# Altium schematic symbol library CryptLib.SchLib: 59 symbols (part 1 of 2)
Pins are listed as number, name and electrical type; pins without a type are passive.

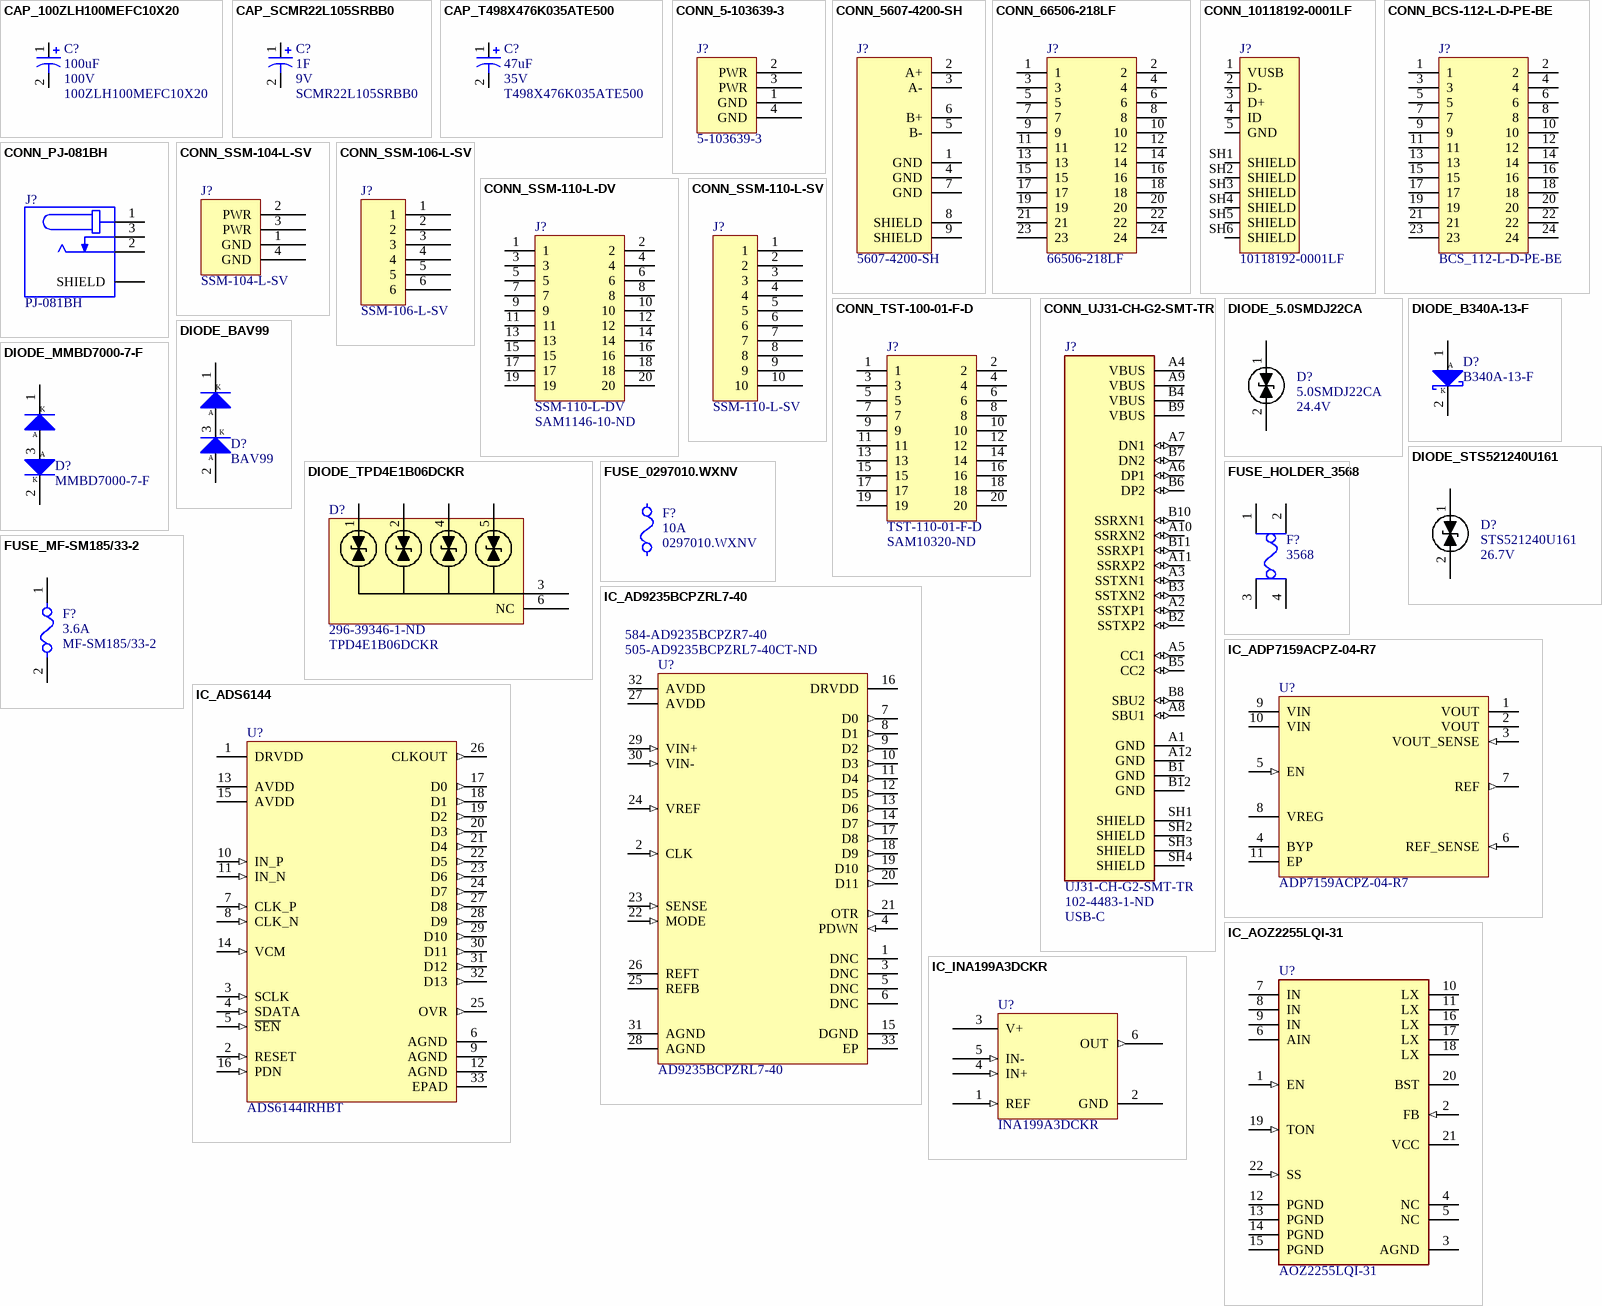
[diagram p0: symbols CAP_100ZLH100MEFC10X20 to IC_INA199A3DCKR]

## CAP_100ZLH100MEFC10X20
designator C?, comment 100uF  Manufacturer Part Number: 100ZLH100MEFC10X20  Rated Voltage: 100V
CAP 100uF 20% 100V T/H; Mfr: Rubycon; Impedance: 120mR; Tolerance: 20%; Operating Temperature: -40C - 105C; ComponentLink1Description: Digikey; ComponentLink1URL: https://www.digikey.ca/en/products/detail/rubycon/100ZLH100MEFC10X20/3563824; ComponentLink2Description: Mouser; ComponentLink2URL: https://www.mouser.ca/ProductDetail/Rubycon/100ZLH100MEFC10X20; Digikey Part Number: 1189-1887-ND; Created By: Pascal-Emmanuel Lachance; ComponentLink3Description: Datasheet; ComponentLink3URL: https://www.rubycon.co.jp/wp-content/uploads/catalog-aluminum/ZLH.pdf; ComponentLink4Description: Octoparts; ComponentLink4URL: https://octopart.com/100zlh100mefc10x20-rubycon-19941711; Height: 22mm; Supplier 1: Digi-Key; Supplier 2: Mouser; Supplier Part Number 1: 1189-1887-ND; Supplier Part Number 2: 232-100ZLH100MEFC10X
footprint 100ZLH100MEFC10X20 (Can Electrolytic Capacitor)
pins: 1, 2
1 alternate drawing of the same symbol

## CAP_SCMR22L105SRBB0
designator C?, comment 1F  Manufacturer Part Number: SCMR22L105SRBB0  Rated Voltage: 9V
CAP 1F -10% +30% 9V T/H; Mfr: AVX Corporation; Tolerance: -10% +30%; Operating Temperature: -40C - 65C; ComponentLink1Description: Digikey; ComponentLink1URL: https://www.digikey.ca/en/products/detail/avx-corporation/SCMR22L105SRBB0/7595432; ComponentLink2Description: Mouser; ComponentLink2URL: https://www.mouser.ca/ProductDetail/AVX/SCMR22L105SRBB0; Digikey Part Number: 478-11316-ND; Created By: Pascal-Emmanuel Lachance; ComponentLink3Description: Datasheet; ComponentLink3URL: https://datasheets.kyocera-avx.com/AVX-SCM.pdf; ComponentLink4Description: Octoparts; ComponentLink4URL: https://octopart.com/scmr22l105srbb0-avx-95719752; Supplier 1: Digi-Key; Supplier 2: Mouser; Supplier 3: Newark; Supplier Part Number 1: 478-11316-ND; Supplier Part Number 2: 581-SCMR22L105SRBB0; Supplier Part Number 3: 21AJ9655
footprint SCMR22L105SRBB0
pins: 1, 2
1 alternate drawing of the same symbol

## CAP_T498X476K035ATE500
designator C?, comment 47uF  Part #: T498X476K035ATE500  Rated Voltage: 35V
47 µF Molded Tantalum Capacitors 35 V 2917 (7343 Metric) 500mOhm; Mfr: KEMET; Tolerance: 10%; Operating Temperature: -55C - 150C; Supplier 1: Digi-Key; Supplier Part Number 1: 399-11397-1-ND; Created By: Pascal-Emmanuel Lachance; ComponentLink1Description: Octoparts; ComponentLink1URL: https://octopart.com/t498x476k035ate500-kemet-34111820; ComponentLink2Description: Digikey; ComponentLink2URL: https://www.digikey.ca/en/products/detail/T498X476K035ATE500/399-11397-2-ND/4692856; ComponentLink3Description: Mouser; ComponentLink3URL: https://www.mouser.ca/ProductDetail/KEMET/T498X476K035ATE500; ComponentLink4Description: Datasheet; ComponentLink4URL: https://content.kemet.com/datasheets/KEM_T2053_T498_AUTO.pdf
footprint CAP_2917_P
pins: 1, 2
1 alternate drawing of the same symbol

## CONN_5-103639-3
designator J?, comment 5-103639-3
CONN HEADER VERT 4POS 2.54MM; Mfr: TE Connectivity; Number of positions: 4; Pitch: 100mil; Contact Length: 230mil; Current: 5.2A / contact; Operating Temperature: -65C - 105C; Created By: Pascal-Emmanuel Lachance; ComponentLink1Description: Octoparts; ComponentLink1URL: https://octopart.com/search?q=5-103639-3; ComponentLink2Description: Digikey; ComponentLink2URL: https://www.digikey.ca/en/products/detail/5-103639-3/A33927-ND/1122490; ComponentLink3Description: Mouser; ComponentLink3URL: https://www.mouser.ca/ProductDetail/TE-Connectivity/5-103639-3; ComponentLink4Description: Datasheet; ComponentLink4URL: https://www.te.com/commerce/DocumentDelivery/DDEController?Action=srchrtrv&DocNm=103639&DocType=Customer+Drawing&DocLang=English
footprint 5-103639-3
pins: 1 GND (power), 2 PWR (power), 3 PWR (power), 4 GND (power)

## CONN_5607-4200-SH
designator J?, comment 5607-4200-SH
7 Position SATA Plug Connector Solder Surface Mount, Right Angle; Mfr: 3M; Supplier 1: Digi-Key; Supplier Part Number 1: 3M5561-ND; Connector Type: SATA; Mounting Type: Right Angle; ComponentLink1Description: Octoparts; ComponentLink1URL: https://octopart.com/5607-4200-sh-3m-656899; Created By: Pascal-Emmanuel Lachance; ComponentLink2Description: Digikey; ComponentLink2URL: https://www.digikey.ca/en/products/detail/3m/5607-4200-SH/1207102; ComponentLink3Description: Mouser; ComponentLink3URL: https://www.mouser.ca/ProductDetail/3M-Electronic-Solutions-Division/5607-4200-SH; ComponentLink4Description: Newark; ComponentLink4URL: https://canada.newark.com/3m/5607-4200-sh/sata-connector-plug-7-position/dp/18M6678; ComponentLink5Description: Datasheet; ComponentLink5URL: https://multimedia.3m.com/mws/media/412906O/3mtm-serial-adv-tech-attachment-sata-connector-cd2108.pdf
footprint 5607-4200-SH
pins: 1 GND (power), 2 A+, 3 A-, 4 GND (power), 5 B-, 6 B+, 7 GND (power), 8 SHIELD, 9 SHIELD

## CONN_66506-218LF
designator J?, comment 66506-218LF
CONN HEADER VERT 24POS 2.54MM; Mfr: Amphenol ICC; Number of positions: 24; Pitch: 100mil; Contact Length: 230mil; Row Space: 100mil; Supplier 1: Mouser; Supplier Part Number 1: 649-66506-218LF; Created By: *; ComponentLink1Description: Octopart; ComponentLink1URL: https://octopart.com/66506-218lf-amphenol+icc+%2F+fci-40071990; ComponentLink2Description: Digikey; ComponentLink2URL: https://www.digikey.com/en/products/detail/amphenol-icc-fci/66506-218LF/4272804; ComponentLink3Description: Mouser; ComponentLink3URL: https://www.mouser.ca/ProductDetail/Amphenol-FCI/66506-218LF; ComponentLink4Description: Datasheet; ComponentLink4URL: https://cdn.amphenol-icc.com/media/wysiwyg/files/drawing/66506.pdf
footprint 66506-218LF
pins: 1, 2, 3, 4, 5, 6, 7, 8, 9, 10, 11, 12, 13, 14, 15, 16, 17, 18, 19, 20, 21, 22, 23, 24

## CONN_10118192-0001LF
designator J?, comment 10118192-0001LF
USB - micro B USB 2.0 Receptacle Connector 5 Position Surface Mount, Right Angle; mfr: Amphenol ICC; Specification: USB 2.0; Current Rating: 1.8A / Contact; Operating Temperature: -30C - 80C; Supplier 1: Digi-Key; Supplier 2: Newark; Supplier 3: Allied Electronics; Supplier Part Number 3: 70236826; Supplier Part Number 2: 67T2258; Supplier Part Number 1: 609-4613-1-ND; Created By: Pascal-Emmanuel Lachance; ComponentLink1Description: Datasheet; ComponentLink1URL: https://cdn.amphenol-icc.com/media/wysiwyg/files/documentation/datasheet/inputoutput/io_usb_micro.pdf; ComponentLink2Description: Octopart; ComponentLink2URL: https://octopart.com/10118192-0001lf-amphenol+icc+%2F+fci-90333079; ComponentLink3Description: Digikey; ComponentLink3URL: https://www.digikey.ca/en/products/detail/amphenol-icc-fci/10118192-0001LF/2785387; ComponentLink4Description: Mouser; ComponentLink4URL: https://www.mouser.ca/ProductDetail/Amphenol-FCI/10118192-0001LF; ComponentLink5Description: Arrow; ComponentLink5URL: https://www.arrow.com/en/products/10118192-0001lf/amphenol-fci; ComponentLink6Description: Amphenol; ComponentLink6URL: https://www.amphenol-icc.com/micro-usb-101181920001lf.html
footprint 10118192-0001LF
pins: 1 VUSB, 2 D-, 3 D+, 4 ID, 5 GND, SH1 SHIELD, SH2 SHIELD, SH3 SHIELD, SH4 SHIELD, SH5 SHIELD, SH6 SHIELD

## CONN_BCS-112-L-D-PE-BE
designator J?, comment BCS_112-L-D-PE-BE
CONN RCPT 24POS 0.1 GOLD PCB; Mfr: Samtec Inc.; Number of positions: 24; Pitch: 100mil; Current: 4.6A; Row Space: 100mil; Insulation Height: 290mil; Operating Temperature: -55C - 125C
footprint BCS-112-L-D-PE-BE
pins: 1, 2, 3, 4, 5, 6, 7, 8, 9, 10, 11, 12, 13, 14, 15, 16, 17, 18, 19, 20, 21, 22, 23, 24

## CONN_PJ-081BH
designator J?, comment PJ-081BH
2.5 x 5.9 mm, 5.0 A, Horizontal, Through Hole, Shielded, Dc Power Jack Connector; Manufacturer: CUI Devices; Inside contact diameter: 2.5mm; Outside contact diameter: 5.5mm; Current Rating: 5A; Voltage Rating: 24V; Part #: PJ-081BH; ComponentLink1Description: Mouser; ComponentLink1URL: https://www.mouser.ca/ProductDetail/CUI-Devices/PJ-081BH; ComponentLink2Description: Digikey; ComponentLink2URL: https://www.digikey.ca/en/products/detail/cui-devices/PJ-081BH/9830152; Supplier 1: Digi-Key; Supplier Part Number 1: 102-5550-1-ND
footprint PJ-081BH
pins: 1, 2, 3, S1 SHIELD, S2 SHIELD

## CONN_SSM-104-L-SV
designator J?, comment SSM-104-L-SV
CONN RCPT 4POS 0.1 GOLD SMD; Mfr: Samtec Inc.; Number of positions: 4; Pitch: 100mil; Current: 5.2A / contact; Insulation Height: 290mil; Operating Temperature: -55C - 125C
footprint SSM-104-L-SV
pins: 1 GND (power), 2 PWR (power), 3 PWR (power), 4 GND (power)

## CONN_SSM-106-L-SV
designator J?, comment SSM-106-L-SV
CONN RCPT 6POS 0.1 GOLD SMD; Mfr: Samtec Inc.; Number of positions: 6; Pitch: 100mil; Current: 5.2A / contact; Insulation Height: 290mil; Operating Temperature: -55C - 125C
footprint SSM-106-L-SV
pins: 1, 2, 3, 4, 5, 6

## CONN_SSM-110-L-DV
designator J?, comment SSM-110-L-DV  Supplier Part Number 1: SAM1146-10-ND
CONN RCPT 20POS 100MILS; Mfr: Samtech Inc.; Number of positions: 20; Current Rating: 5.2A per contact; Voltage Rating: 405VAC, 572VDC; Number of rows: 2; Pitch: 100mils; Mounting Type: Surface Mount; Insulation Height: 290mils; Operating Temperature: -55C - 125C; Supplier 1: Digi-Key
footprint SSM-110-L-DV
pins: 1, 2, 3, 4, 5, 6, 7, 8, 9, 10, 11, 12, 13, 14, 15, 16, 17, 18, 19, 20

## CONN_SSM-110-L-SV
designator J?, comment SSM-110-L-SV
CONN RCPT 10POS 0.1 GOLD SMD; Mfr: Samtec Inc.; Number of positions: 10; Pitch: 100mil; Current: 5.2A / contact; Insulation Height: 290mil; Operating Temperature: -55C - 125C; Supplier 1: Digi-Key; Supplier Part Number 1: SAM1148-10-ND; Created By: Pascal-Emmanuel Lachance
footprint SSM-110-L-SV
pins: 1, 2, 3, 4, 5, 6, 7, 8, 9, 10

## CONN_TST-100-01-F-D
designator J?, comment TST-110-01-F-D  Supplier Part Number 1: SAM10320-ND
CONN HEADER VERT 20POS 2.54MM; Mfr: Samtech Inc.; Number of positions: 20; Pitch: 100mils; Contact Length: 250mils; Current Rating: 3.4A per contact; Number of rows: 2; Mounting Type: Through Hole; Operating Temperature: -55C - 125C; Supplier 1: Digi-Key
footprint TST-110-01-F-D
pins: 1, 2, 3, 4, 5, 6, 7, 8, 9, 10, 11, 12, 13, 14, 15, 16, 17, 18, 19, 20

## CONN_UJ31-CH-G2-SMT-TR
designator J?, comment UJ31-CH-G2-SMT-TR  Connector Type: USB-C  Supplier Part Number 1: 102-4483-1-ND
Type C, USB 3.1 Gen 2, 5 A, Right Angle, Surface Mount _SMT_, USB Receptacle; Mfr: CUI Devices; Number of Contacts: 24; Specifications: USB 3.2 Gen 2 (USB 3.1 Gen 2, Superspeed + (USB 3.1)); Current Rating: 6.25A; Voltage Rating: 20V; Operating Temperature: -25C - 80C; Digikey Part Number: 102-4483-1-ND; ComponentLink1Description: Digikey; ComponentLink1URL: https://www.digikey.ca/en/products/detail/cui-devices/UJ31-CH-G2-SMT-TR/8024057; Supplier 1: Digi-Key
footprint UJ31-CH-G2-SMT-TR
pins: A1 GND (power), A2 SSTXP1 (io), A3 SSTXN1 (io), A4 VBUS (power), A5 CC1 (io), A6 DP1 (io), A7 DN1 (io), A8 SBU1 (io), A9 VBUS (power), A10 SSRXN2 (io), A11 SSRXP2 (io), A12 GND (power), B1 GND (power), B2 SSTXP2 (io), B3 SSTXN2 (io), B4 VBUS (power), B5 CC2 (io), B6 DP2 (io), B7 DN2 (io), B8 SBU2 (io), B9 VBUS (power), B10 SSRXN1 (io), B11 SSRXP1 (io), B12 GND (power), SH1 SHIELD (power), SH2 SHIELD (power), SH3 SHIELD (power), SH4 SHIELD (power)

## DIODE_5.0SMDJ22CA
designator D?, comment 5.0SMDJ22CA  Voltage - Breakdown: 24.4V
TVS Diode 24.4V; Mfr: Littelfuse; Voltage - Reverse: 22V; Current: 141A Peak; Operating Temperature: -65C - 150C; Package / Case: SMC; Created By: Pascal-Emmanuel Lachance; ComponentLink1Description: Datasheet; ComponentLink1URL: https://www.littelfuse.com/~/media/electronics/datasheets/tvs_diodes/littelfuse_tvs_diode_5_0smdj_datasheet.pdf.pdf; ComponentLink2Description: Mfr page; ComponentLink2URL: https://www.littelfuse.com/products/tvs-diodes/surface-mount/5_0smdj/5_0smdj22ca.aspx; ComponentLink3Description: Digikey; ComponentLink3URL: https://www.digikey.ca/en/products/detail/littelfuse-inc/5-0SMDJ22CA/2024320; ComponentLink4Description: Mouser; ComponentLink4URL: https://www.mouser.ca/ProductDetail/Littelfuse/50SMDJ22CA; Supplier 1: Digi-Key; Supplier 2: Mouser; Supplier Part Number 1: F10850CT-ND; Supplier Part Number 2: 652-5.0SMDJ22CA
footprint DO214AB (SMC)
pins: 1 A, 2 C

## DIODE_B340A-13-F
designator D?, comment B340A-13-F
DIODE SCHOTTKY 40V 3A SMA; Diode Type: Shottky; Forward Voltage: 500mV; Current: 3A; Package / Case: SMA; Reverse Voltage: 40V; Digikey Part Number: B340A-FDICT-ND; ComponentLink1Description: Digikey; ComponentLink1URL: https://www.digikey.ca/en/products/detail/diodes-incorporated/B340A-13-F/725015
footprint B340A-13-F
pins: 1 A, 2 hidden, 2 K

## DIODE_BAV99
designator D?, comment BAV99
DIODE ARRAY GP 75V 300MA SOT23-3; Mfr: Taiwan Semiconductor Corporation; Diode Configuration: 1 Pair Series Connection; Current: 200mA; DC Reverse Voltage: 70V; Operating Temperature: -55C - 150C; Footprint: SOT-23
footprint MMBD7000-7-F
pins: 1 K, 2 K, 3 A, 3 A

## DIODE_MMBD7000-7-F
designator D?, comment MMBD7000-7-F
DIODE ARRAY GP 75V 300MA SOT23-3; Mfr: Diodes Incorporated; Diode Configuration: 1 Pair Series Connection; Current: 300mA; Operating Temperature: -65C - 150C; Footprint: SOT-23; DC Reverse Voltage: 75V
footprint MMBD7000-7-F
pins: 1 K, 2 K, 3 A, 3 A

## DIODE_STS521240U161
designator D?, comment STS521240U161  Voltage - Breakdown: 26.7V
TVS DIODE 24VWM 48VC SOD523; Mfr: Eaton; Voltage - Reverse: 24V; Current: 4A; Operating Temperature: -55C - 125C; Package / Case: SOD-523 (SC-79); ComponentLink1Description: Digikey; ComponentLink1URL: https://www.digikey.ca/en/products/detail/eaton-electronics-division/STS521240U161/13416120; ComponentLink2Description: Mouser; ComponentLink2URL: https://www.digikey.ca/en/products/detail/eaton-electronics-division/STS521240U161/13416120; Digikey Part Number: 283-STS521240U161CT-ND
footprint STS521240U161
pins: 1 A, 2 C

## DIODE_TPD4E1B06DCKR
designator D?, comment TPD4E1B06DCKR  Supplier Part Number 1: 296-39346-1-ND
TVS DIODE 5.5VWM 14.5VC SC70-6; Mfr: Texas Instruments; Voltage - Reverse: 5.5V; Breakdown Voltage: 7V; Clamping Voltage: 14.5V; Current Peak (10/1ms): 3A; Power Peak: 45W; Operating Temperature: -40C - 125C; Supplier 1: Digi-Key
footprint TPD4E1B06DCKR
pins: 1 A, 2 A, 3 GND, 4 A, 5 A, 6 NC

## FUSE_0297010.WXNV
designator F?, comment 0297010.WXNV  Current - Trip: 10A
FUSE AUTO 10A 32V BLADE MINI; Mfr: Littelfuse; Current - Max: 40A; Time to Trip: 100ms; Resistance: 7.42mR; Rule: UNIONINDEX=0|RULEKIND=ComponentClearance|NETSCOPE=AnyNet|LAYERKIND=SameLayer|NAME=Schematic Component Clearance Constraint|GAP=-1mil|COLLISIONCHECKMODE=3|VERTICALGAP=10mil|SHOWDISTANCES=FALSE|UNIT=Imperial; Voltage Rating: 32V; Operating Temperature: -40C - 125C; Package / Case: BLADE MINI AUTO; Current - Hold: 10A; ComponentLink1Description: Datasheet; ComponentLink1URL: https://www.littelfuse.com/~/media/automotive/datasheets/fuses/passenger-car-and-commercial-vehicle/blade-fuses/littelfuse_mini_datasheet.pdf; ComponentLink2Description: Digikey; ComponentLink2URL: https://www.digikey.ca/en/products/detail/littelfuse-inc/0297010-WXNV/146591; Created By: Pascal-Emmanuel Lachance; ComponentLink3Description: Mouser; ComponentLink3URL: https://www.mouser.ca/ProductDetail/Littelfuse/0297010WXNV; ComponentLink4Description: Octopart; ComponentLink4URL: https://octopart.com/0297010.wxnv-littelfuse-566872
footprint 0297010.WXNV (10A Fuse WITHOUT HOLDER)

## FUSE_HOLDER_3568
designator F?, comment 3568
FUSE HOLDER BLADE; Mfr: Keystone; Voltage Rating: 500V; Current - Max: 30A; Operating Temperature: -50C - 145C; Created By: Pascal-Emmanuel Lachance
footprint 3568 (Keystone Fuse Holder)
pins: 1, 2, 3, 4

## FUSE_MF-SM185/33-2
designator F?, comment MF-SM185/33-2  Current - Trip: 3.6A
PTC RESET FUSE 33V 1.8A 2SMD; Current - Max: 40A; Time to Trip: 5s; Resistance: 40mOhms; Voltage Rating: 33V; Operating Temperature: -40C - 85C; Package / Case: 2-SMD; Current - Hold: 1.8A; Digikey Part Number: MF-SM185/33-2TR-ND; ComponentLink1Description: Digikey; ComponentLink1URL: https://www.digikey.ca/en/products/detail/bourns-inc/MF-SM185-33-2/480098; ComponentLink2Description: Mouser; ComponentLink2URL: https://www.mouser.com/ProductDetail/Bourns/MF-SM185-33-2
footprint MF-SM185/33-2
pins: 1, 2

## IC_AD9235BCPZRL7-40
designator U?, comment AD9235BCPZRL7-40  Supplier Part Number 1: 505-AD9235BCPZRL7-40CT-ND  Supplier Part Number 2: 584-AD9235BCPZR7-40
Parallel 12 Bit ADC 40MSPS 1 Input Diff; Mfr: Analog Devices; Number of Bits: 12; Input Type: Differential / Single-Ended; Internal Reference: 500mV to 1V adj; Supply (Analog): 2.7V to 3.6V; Supply (Digital): 2.25V to 3.6V; Sample Rate: 40MSPS; Data Interface: Parallel; Operating Temperature: -40C to 85C; Created By: Pascal-Emmanuel Lachance; ComponentLink1Description: Datasheet; ComponentLink1URL: https://www.analog.com/media/en/technical-documentation/data-sheets/AD9235.pdf; ComponentLink2Description: Digikey; ComponentLink2URL: https://www.digikey.ca/en/products/detail/analog-devices-inc/AD9235BCPZRL7-40/996171; ComponentLink3Description: Mouser; ComponentLink3URL: https://www.mouser.com/ProductDetail/Analog-Devices/AD9235BCPZRL7-40; ComponentLink4Description: Arrow; ComponentLink4URL: https://www.arrow.com/en/products/ad9235bcpzrl7-40/analog-devices; ComponentLink5Description: Octoparts; ComponentLink5URL: https://octopart.com/ad9235bcpzrl7-40-analog+devices-404113; ComponentLink6Description: Mfr Page; ComponentLink6URL: https://www.analog.com/en/products/ad9235.html; Supplier 1: Digi-Key; Supplier 2: Mouser
footprint AD9235BCPZRL7-40 (QFN-32 (5x5))
pins: 1 DNC, 2 CLK (in), 3 DNC, 4 PDWN (in), 5 DNC, 6 DNC, 7 D0 (out), 8 D1 (out), 9 D2 (out), 10 D3 (out), 11 D4 (out), 12 D5 (out), 13 D6 (out), 14 D7 (out), 15 DGND (power), 16 DRVDD (power), 17 D8 (out), 18 D9 (out), 19 D10 (out), 20 D11 (out), 21 OTR (out), 22 MODE (in), 23 SENSE (in), 24 VREF (in), 25 REFB, 26 REFT, 27 AVDD (power), 28 AGND (power), 29 VIN+ (in), 30 VIN- (in), 31 AGND (power), 32 AVDD (power), 33 EP (power)

## IC_ADP7159ACPZ-04-R7
designator U?, comment ADP7159ACPZ-04-R7
Linear Voltage Regulator IC Positive Adjustable 1 Output 2A 10-LFCSP-WD (3x3); Mfr: Analog Devices; Max Input Voltage: 5.5V; Min Output Voltage: 1.2V; Max Output Voltage: 3.3V; Voltage Dropout: 280mV; Max Current: 2A; Operating Temperature: -40C to 125C; Package: VFDFN-10; Supplier 1: Digi-Key; Supplier Part Number 1: 505-ADP7159ACPZ-04-R7CT-ND; ComponentLink1Description: Digikey; ComponentLink1URL: https://www.digikey.ca/en/products/detail/analog-devices-inc/ADP7159ACPZ-04-R7/5887083; ComponentLink2Description: Datasheet; ComponentLink2URL: https://www.analog.com/media/en/technical-documentation/data-sheets/ADP7159.pdf
footprint ADP7159ACPZ-04-R7 (VFDFN-10)
pins: 1 VOUT (power), 2 VOUT (power), 3 VOUT_SENSE (in), 4 BYP, 5 EN (in), 6 REF_SENSE (in), 7 REF (out), 8 VREG (power), 9 VIN (power), 10 VIN (power), 11 EP (power)

## IC_ADS6144
designator U?, comment ADS6144IRHBT
14 Bit Analog to Digital Converter 1 Input 1 Pipelined 32-VQFN (5x5); Mfr: Texas Instruments; Number of bits: 14; Sampling rante: 105MSPS; Input Type: Differential; Data Interface: Parallel Data + Serial Config; Reference Type: External, Internal; Internal Reference: 1.5V; Analog Voltage Supply: 3V to 3.6V; Digital Voltage Supply: 1.65V to 3.6V; Operating Temperature: -40C to 85C; Package: VQFN-32 (5x5); Supplier 1: Digi-Key; Supplier Part Number 1: 296-22661-1-ND; ComponentLink1Description: Digikey; ComponentLink1URL: https://www.digikey.ca/en/products/detail/texas-instruments/ADS6144IRHBT/1692491; ComponentLink2Description: Mouser; ComponentLink2URL: https://www.mouser.ca/ProductDetail/Texas-Instruments/ADS6144IRHBT; ComponentLink3Description: Texas Instruments; ComponentLink3URL: https://www.ti.com/store/ti/en/p/product/?p=ADS6144IRHBT; ComponentLink4Description: Octopart; ComponentLink4URL: https://octopart.com/ads6144irhbt-texas+instruments-7109607; ComponentLink5Description: Datasheet; ComponentLink5URL: https://www.ti.com/lit/ds/symlink/ads6144.pdf
footprint ADS6144IRHBT (VQFN-32 (5x5))
pins: 1 DRVDD (power), 2 RESET (in), 3 SCLK (in), 4 SDATA (in), 5 ~{SEN} (in), 6 AGND (power), 7 CLK_P (in), 8 CLK_N (in), 9 AGND (power), 10 IN_P (in), 11 IN_N (in), 12 AGND (power), 13 AVDD (power), 14 VCM (in), 15 AVDD (power), 16 PDN (in), 17 D0 (out), 18 D1 (out), 19 D2 (out), 20 D3 (out), 21 D4 (out), 22 D5 (out), 23 D6 (out), 24 D7 (out), 25 OVR (out), 26 CLKOUT (out), 27 D8 (out), 28 D9 (out), 29 D10 (out), 30 D11 (out), 31 D12 (out), 32 D13 (out), 33 EPAD (power)

## IC_AOZ2255LQI-31
designator U?, comment AOZ2255LQI-31
Buck Switching Regulator IC Positive Adjustable 0.6V 1 Output 12A 22-PowerVFQFN; Mfr: Alpha & Omega Semiconductor; Min Input Voltage: 6.5V; Max Input Voltage: 28V; Max Output Voltage: 23.8V; Min Output Voltage: 0.6V; Max Output Current: 12A; Operating Temperature: -40C to 85C; Package: PowerVFQFN-22 (4x4); Supplier 1: Digi-Key; Supplier Part Number 1: 785-AOZ2255LQI-31TR-ND; ComponentLink1Description: Digikey; ComponentLink1URL: https://www.digikey.ca/en/products/detail/alpha-omega-semiconductor-inc/AOZ2255LQI-31/12180202; ComponentLink2Description: Datasheet; ComponentLink2URL: http://aosmd.com/res/data_sheets/AOZ2255LQI-31.pdf; ComponentLink3Description: Octoparts; ComponentLink3URL: https://octopart.com/aoz2255lqi-31-alpha+%26+omega+semiconductor-109142852
footprint AOZ2255LQI-31 (PowerVFQFN-22)
pins: 1 EN (in), 2 FB (in), 3 AGND (power), 4 NC, 5 NC, 6 AIN (power), 7 IN (power), 8 IN (power), 9 IN (power), 10 LX, 11 LX, 12 PGND (power), 13 PGND (power), 14 PGND (power), 15 PGND (power), 16 LX, 17 LX, 18 LX, 19 TON (in), 20 BST, 21 VCC (power), 22 SS (in)

## IC_INA199A3DCKR
designator U?, comment INA199A3DCKR
Mfr: Texas Instruments; Sensing Method: High-Side / Low-Side; Accuracy: 1.5%; Max Voltage: 26V; Frequency: 14kHz; Gain: 200V/V; Operating Temperature: -40C - 125C; Created By: Pascal-Emmanuel Lachance; ComponentLink1Description: Datasheet; ComponentLink1URL: https://www.ti.com/lit/ds/symlink/ina199.pdf; ComponentLink2Description: Octoparts; ComponentLink2URL: https://octopart.com/ina199a3dckr-texas+instruments-18607488; ComponentLink3Description: Digikey; ComponentLink3URL: https://www.digikey.ca/en/products/detail/texas-instruments/INA199A3DCKR/2279249; ComponentLink4Description: Mouser; ComponentLink4URL: https://www.mouser.ca/ProductDetail/Texas-Instruments/INA199A3DCKT; Supplier 1: Digi-Key; Supplier Part Number 1: 296-27333-1-ND
footprint SC-70-6 (SOT-363)
pins: 1 REF (in), 2 GND (power), 3 V+ (power), 4 IN+ (in), 5 IN- (in), 6 OUT (out)

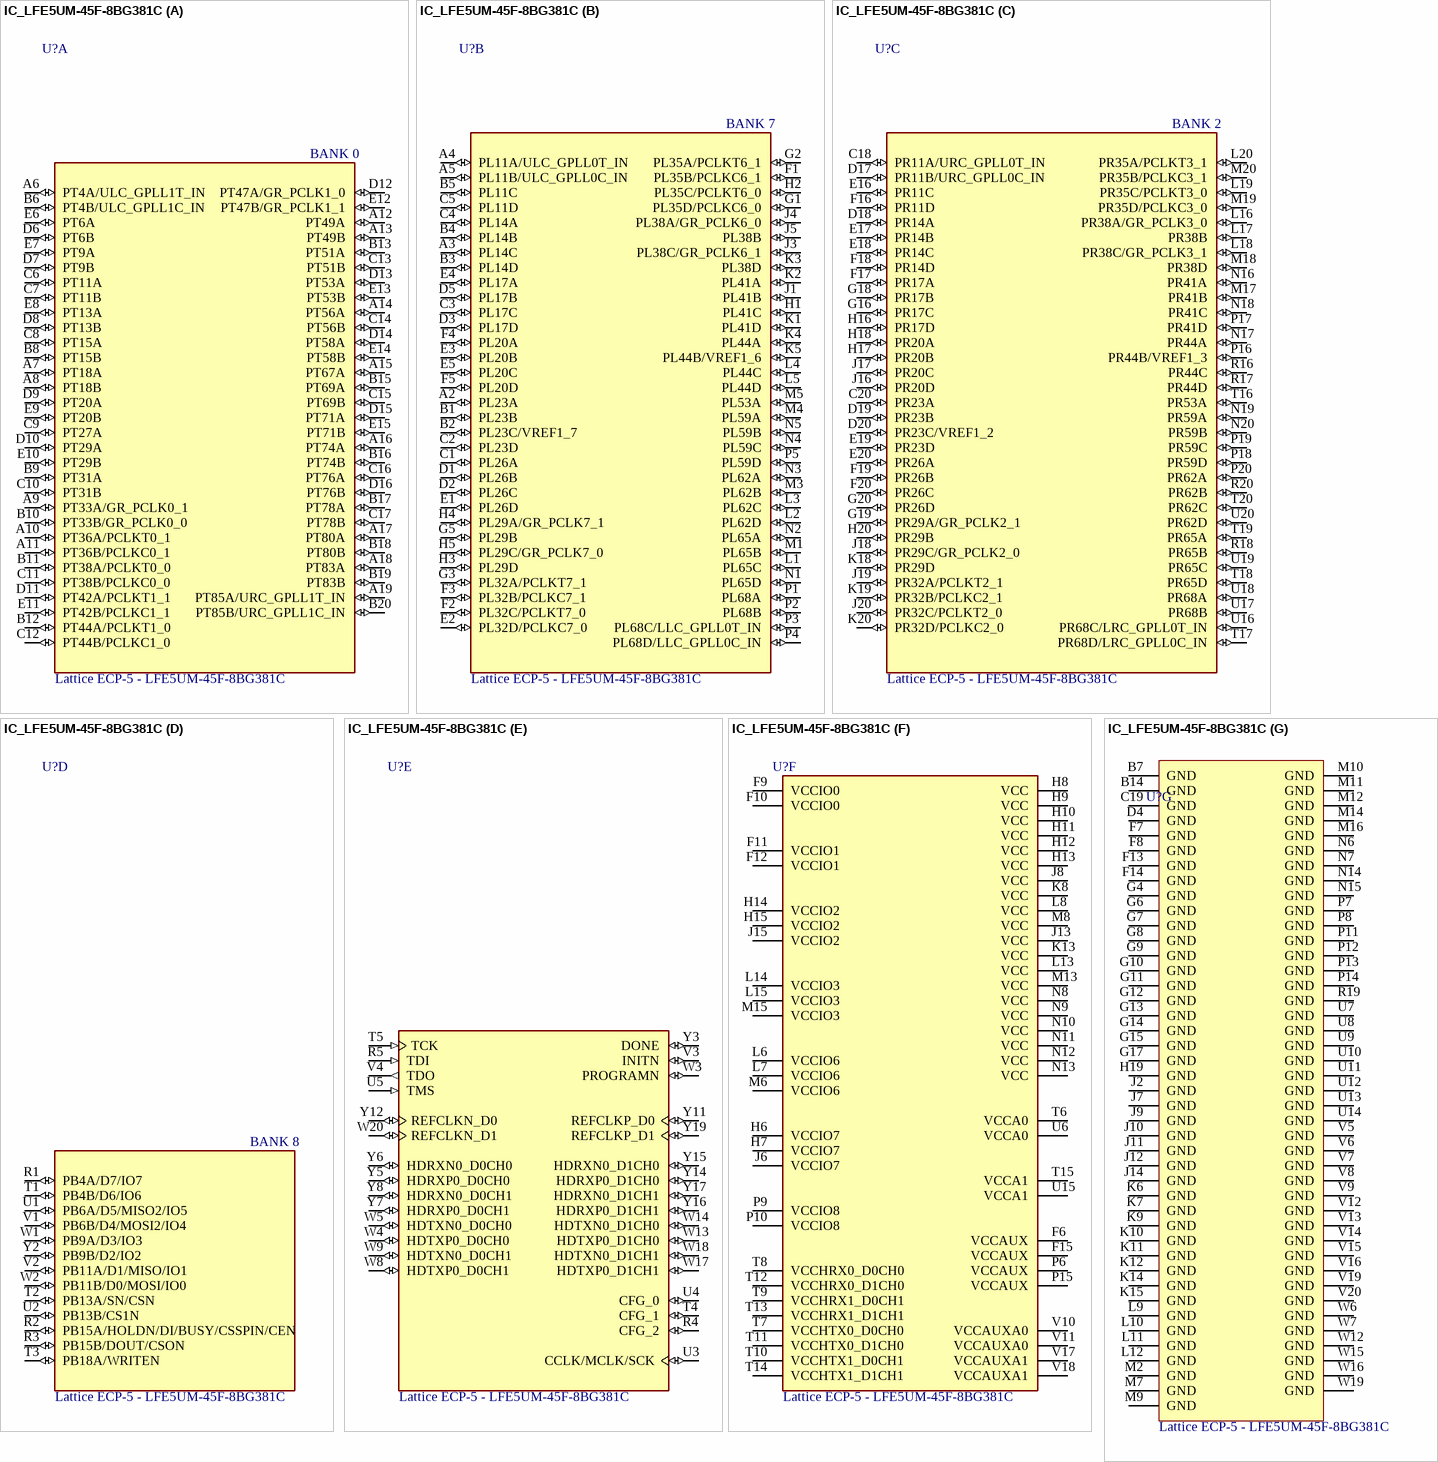
[diagram p1: symbol IC_LFE5UM-45F-8BG381C]

## IC_LFE5UM-45F-8BG381C
designator U?, comment Lattice ECP-5 - LFE5UM-45F-8BG381C
IC FPGA 203 I/O 381CABGA; Mfr: Lattice Semiconductors; Supply Voltage: 1.045V - 1.115V; LABs/CLBs: 11000; Logic Elements: 44000; IOs: 203; RAM Bits: 1990656; Operating Temperature: 0C - 85C; Package / Case: 381-CABGA; Supplier 1: Digi-Key; Supplier 2: Mouser; Supplier 3: Arrow Electronics; Supplier 4: Newark; Supplier Part Number 4: 55AJ1635; Supplier Part Number 3: LFE5UM-45F-8BG381C; Supplier Part Number 2: 842-LFE5UM45F8BG381C; Supplier Part Number 1: 220-1998-ND
footprint CABGA-381
part A pins: A6 PT4A/ULC_GPLL1T_IN (io), A7 PT18A (io), A8 PT18B (io), A9 PT33A/GR_PCLK0_1 (io), A10 PT36A/PCLKT0_1 (io), A11 PT36B/PCLKC0_1 (io), A12 PT49A (io), A13 PT49B (io), A14 PT56A (io), A15 PT67A (io), A16 PT74A (io), A17 PT80A (io), A18 PT83A (io), A19 PT85A/URC_GPLL1T_IN (io), B6 PT4B/ULC_GPLL1C_IN (io), B8 PT15B (io), B9 PT31A (io), B10 PT33B/GR_PCLK0_0 (io), B11 PT38A/PCLKT0_0 (io), B12 PT44A/PCLKT1_0 (io), B13 PT51A (io), B15 PT69A (io), B16 PT74B (io), B17 PT78A (io), B18 PT80B (io), B19 PT83B (io), B20 PT85B/URC_GPLL1C_IN (io), C6 PT11A (io), C7 PT11B (io), C8 PT15A (io), C9 PT27A (io), C10 PT31B (io), C11 PT38B/PCLKC0_0 (io), C12 PT44B/PCLKC1_0 (io), C13 PT51B (io), C14 PT56B (io), C15 PT69B (io), C16 PT76A (io), C17 PT78B (io), D6 PT6B (io), D7 PT9B (io), D8 PT13B (io), D9 PT20A (io), D10 PT29A (io), D11 PT42A/PCLKT1_1 (io), D12 PT47A/GR_PCLK1_0 (io), D13 PT53A (io), D14 PT58A (io), D15 PT71A (io), D16 PT76B (io), E6 PT6A (io), E7 PT9A (io), E8 PT13A (io), E9 PT20B (io), E10 PT29B (io), E11 PT42B/PCLKC1_1 (io), E12 PT47B/GR_PCLK1_1 (io), E13 PT53B (io), E14 PT58B (io), E15 PT71B (io)
part B pins: A2 PL23A (io), A3 PL14C (io), A4 PL11A/ULC_GPLL0T_IN (io), A5 PL11B/ULC_GPLL0C_IN (io), B1 PL23B (io), B2 PL23C/VREF1_7 (io), B3 PL14D (io), B4 PL14B (io), B5 PL11C (io), C1 PL26A (io), C2 PL23D (io), C3 PL17C (io), C4 PL14A (io), C5 PL11D (io), D1 PL26B (io), D2 PL26C (io), D3 PL17D (io), D5 PL17B (io), E1 PL26D (io), E2 PL32D/PCLKC7_0 (io), E3 PL20B (io), E4 PL17A (io), E5 PL20C (io), F1 PL35B/PCLKC6_1 (io), F2 PL32C/PCLKT7_0 (io), F3 PL32B/PCLKC7_1 (io), F4 PL20A (io), F5 PL20D (io), G1 PL35D/PCLKC6_0 (io), G2 PL35A/PCLKT6_1 (io), G3 PL32A/PCLKT7_1 (io), G5 PL29B (io), H1 PL41C (io), H2 PL35C/PCLKT6_0 (io), H3 PL29D (io), H4 PL29A/GR_PCLK7_1 (io), H5 PL29C/GR_PCLK7_0 (io), J1 PL41B (io), J3 PL38C/GR_PCLK6_1 (io), J4 PL38A/GR_PCLK6_0 (io), J5 PL38B (io), K1 PL41D (io), K2 PL41A (io), K3 PL38D (io), K4 PL44A (io), K5 PL44B/VREF1_6 (io), L1 PL65C (io), L2 PL62D (io), L3 PL62C (io), L4 PL44C (io), L5 PL44D (io), M1 PL65B (io), M3 PL62B (io), M4 PL59A (io), M5 PL53A (io), N1 PL65D (io), N2 PL65A (io), N3 PL62A (io), N4 PL59C (io), N5 PL59B (io), P1 PL68A (io), P2 PL68B (io), P3 PL68C/LLC_GPLL0T_IN (io), P4 PL68D/LLC_GPLL0C_IN (io), P5 PL59D (io)
part C pins: C18 PR11A/URC_GPLL0T_IN (io), C20 PR23A (io), D17 PR11B/URC_GPLL0C_IN (io), D18 PR14A (io), D19 PR23B (io), D20 PR23C/VREF1_2 (io), E16 PR11C (io), E17 PR14B (io), E18 PR14C (io), E19 PR23D (io), E20 PR26A (io), F16 PR11D (io), F17 PR17A (io), F18 PR14D (io), F19 PR26B (io), F20 PR26C (io), G16 PR17C (io), G18 PR17B (io), G19 PR29A/GR_PCLK2_1 (io), G20 PR26D (io), H16 PR17D (io), H17 PR20B (io), H18 PR20A (io), H20 PR29B (io), J16 PR20D (io), J17 PR20C (io), J18 PR29C/GR_PCLK2_0 (io), J19 PR32A/PCLKT2_1 (io), J20 PR32C/PCLKT2_0 (io), K18 PR29D (io), K19 PR32B/PCLKC2_1 (io), K20 PR32D/PCLKC2_0 (io), L16 PR38A/GR_PCLK3_0 (io), L17 PR38B (io), L18 PR38C/GR_PCLK3_1 (io), L19 PR35C/PCLKT3_0 (io), L20 PR35A/PCLKT3_1 (io), M17 PR41B (io), M18 PR38D (io), M19 PR35D/PCLKC3_0 (io), M20 PR35B/PCLKC3_1 (io), N16 PR41A (io), N17 PR44A (io), N18 PR41C (io), N19 PR59A (io), N20 PR59B (io), P16 PR44B/VREF1_3 (io), P17 PR41D (io), P18 PR59D (io), P19 PR59C (io), P20 PR62A (io), R16 PR44C (io), R17 PR44D (io), R18 PR65B (io), R20 PR62B (io), T16 PR53A (io), T17 PR68D/LRC_GPLL0C_IN (io), T18 PR65D (io), T19 PR65A (io), T20 PR62C (io), U16 PR68C/LRC_GPLL0T_IN (io), U17 PR68B (io), U18 PR68A (io), U19 PR65C (io), U20 PR62D (io)
part D pins: R1 PB4A/D7/IO7 (io), R2 PB15A/HOLDN/DI/BUSY/CSSPIN/CEN (io), R3 PB15B/DOUT/CSON (io), T1 PB4B/D6/IO6 (io), T2 PB13A/SN/CSN (io), T3 PB18A/WRITEN (io), U1 PB6A/D5/MISO2/IO5 (io), U2 PB13B/CS1N (io), V1 PB6B/D4/MOSI2/IO4 (io), V2 PB11A/D1/MISO/IO1 (io), W1 PB9A/D3/IO3 (io), W2 PB11B/D0/MOSI/IO0 (io), Y2 PB9B/D2/IO2 (io)
part E pins: R4 CFG_2 (io), R5 TDI (in), T4 CFG_1 (io), T5 TCK (in), U3 CCLK/MCLK/SCK (io), U4 CFG_0 (io), U5 TMS (in), V3 INITN (io), V4 TDO (out), W3 PROGRAMN (io), W4 HDTXP0_D0CH0 (io), W5 HDTXN0_D0CH0 (io), W8 HDTXP0_D0CH1 (io), W9 HDTXN0_D0CH1 (io), W13 HDTXP0_D1CH0 (io), W14 HDTXN0_D1CH0 (io), W17 HDTXP0_D1CH1 (io), W18 HDTXN0_D1CH1 (io), W20 REFCLKN_D1 (io), Y3 DONE (io), Y5 HDRXP0_D0CH0 (io), Y6 HDRXN0_D0CH0 (io), Y7 HDRXP0_D0CH1 (io), Y8 HDRXN0_D0CH1 (io), Y11 REFCLKP_D0 (io), Y12 REFCLKN_D0 (io), Y14 HDRXP0_D1CH0 (io), Y15 HDRXN0_D1CH0 (io), Y16 HDRXP0_D1CH1 (io), Y17 HDRXN0_D1CH1 (io), Y19 REFCLKP_D1 (io)
part F pins: F6 VCCAUX (power), F9 VCCIO0 (power), F10 VCCIO0 (power), F11 VCCIO1 (power), F12 VCCIO1 (power), F15 VCCAUX (power), H6 VCCIO7 (power), H7 VCCIO7 (power), H8 VCC (power), H9 VCC (power), H10 VCC (power), H11 VCC (power), H12 VCC (power), H13 VCC (power), H14 VCCIO2 (power), H15 VCCIO2 (power), J6 VCCIO7 (power), J8 VCC (power), J13 VCC (power), J15 VCCIO2 (power), K8 VCC (power), K13 VCC (power), L6 VCCIO6 (power), L7 VCCIO6 (power), L8 VCC (power), L13 VCC (power), L14 VCCIO3 (power), L15 VCCIO3 (power), M6 VCCIO6 (power), M8 VCC (power), M13 VCC (power), M15 VCCIO3 (power), N8 VCC (power), N9 VCC (power), N10 VCC (power), N11 VCC (power), N12 VCC (power), N13 VCC (power), P6 VCCAUX (power), P9 VCCIO8 (power), P10 VCCIO8 (power), P15 VCCAUX (power), T6 VCCA0 (power), T7 VCCHTX0_D0CH0 (power), T8 VCCHRX0_D0CH0 (power), T9 VCCHRX1_D0CH1 (power), T10 VCCHTX1_D0CH1 (power), T11 VCCHTX0_D1CH0 (power), T12 VCCHRX0_D1CH0 (power), T13 VCCHRX1_D1CH1 (power), T14 VCCHTX1_D1CH1 (power), T15 VCCA1 (power), U6 VCCA0 (power), U15 VCCA1 (power), V10 VCCAUXA0 (power), V11 VCCAUXA0 (power), V17 VCCAUXA1 (power), V18 VCCAUXA1 (power)
part G pins: B7 GND (power), B14 GND (power), C19 GND (power), D4 GND (power), F7 GND (power), F8 GND (power), F13 GND (power), F14 GND (power), G4 GND (power), G6 GND (power), G7 GND (power), G8 GND (power), G9 GND (power), G10 GND (power), G11 GND (power), G12 GND (power), G13 GND (power), G14 GND (power), G15 GND (power), G17 GND (power), H19 GND (power), J2 GND (power), J7 GND (power), J9 GND (power), J10 GND (power), J11 GND (power), J12 GND (power), J14 GND (power), K6 GND (power), K7 GND (power), K9 GND (power), K10 GND (power), K11 GND (power), K12 GND (power), K14 GND (power), K15 GND (power), L9 GND (power), L10 GND (power), L11 GND (power), L12 GND (power), M2 GND (power), M7 GND (power), M9 GND (power), M10 GND (power), M11 GND (power), M12 GND (power), M14 GND (power), M16 GND (power), N6 GND (power), N7 GND (power), N14 GND (power), N15 GND (power), P7 GND (power), P8 GND (power), P11 GND (power), P12 GND (power), P13 GND (power), P14 GND (power), R19 GND (power), U7 GND (power), U8 GND (power), U9 GND (power), U10 GND (power), U11 GND (power), U12 GND (power), U13 GND (power), U14 GND (power), V5 GND (power), V6 GND (power), V7 GND (power), V8 GND (power), V9 GND (power), V12 GND (power), V13 GND (power), V14 GND (power), V15 GND (power), V16 GND (power), V19 GND (power), V20 GND (power), W6 GND (power), W7 GND (power), W12 GND (power), W15 GND (power), W16 GND (power), W19 GND (power)
part A text: BANK 0
part B text: BANK 7
part C text: BANK 2
part D text: BANK 8

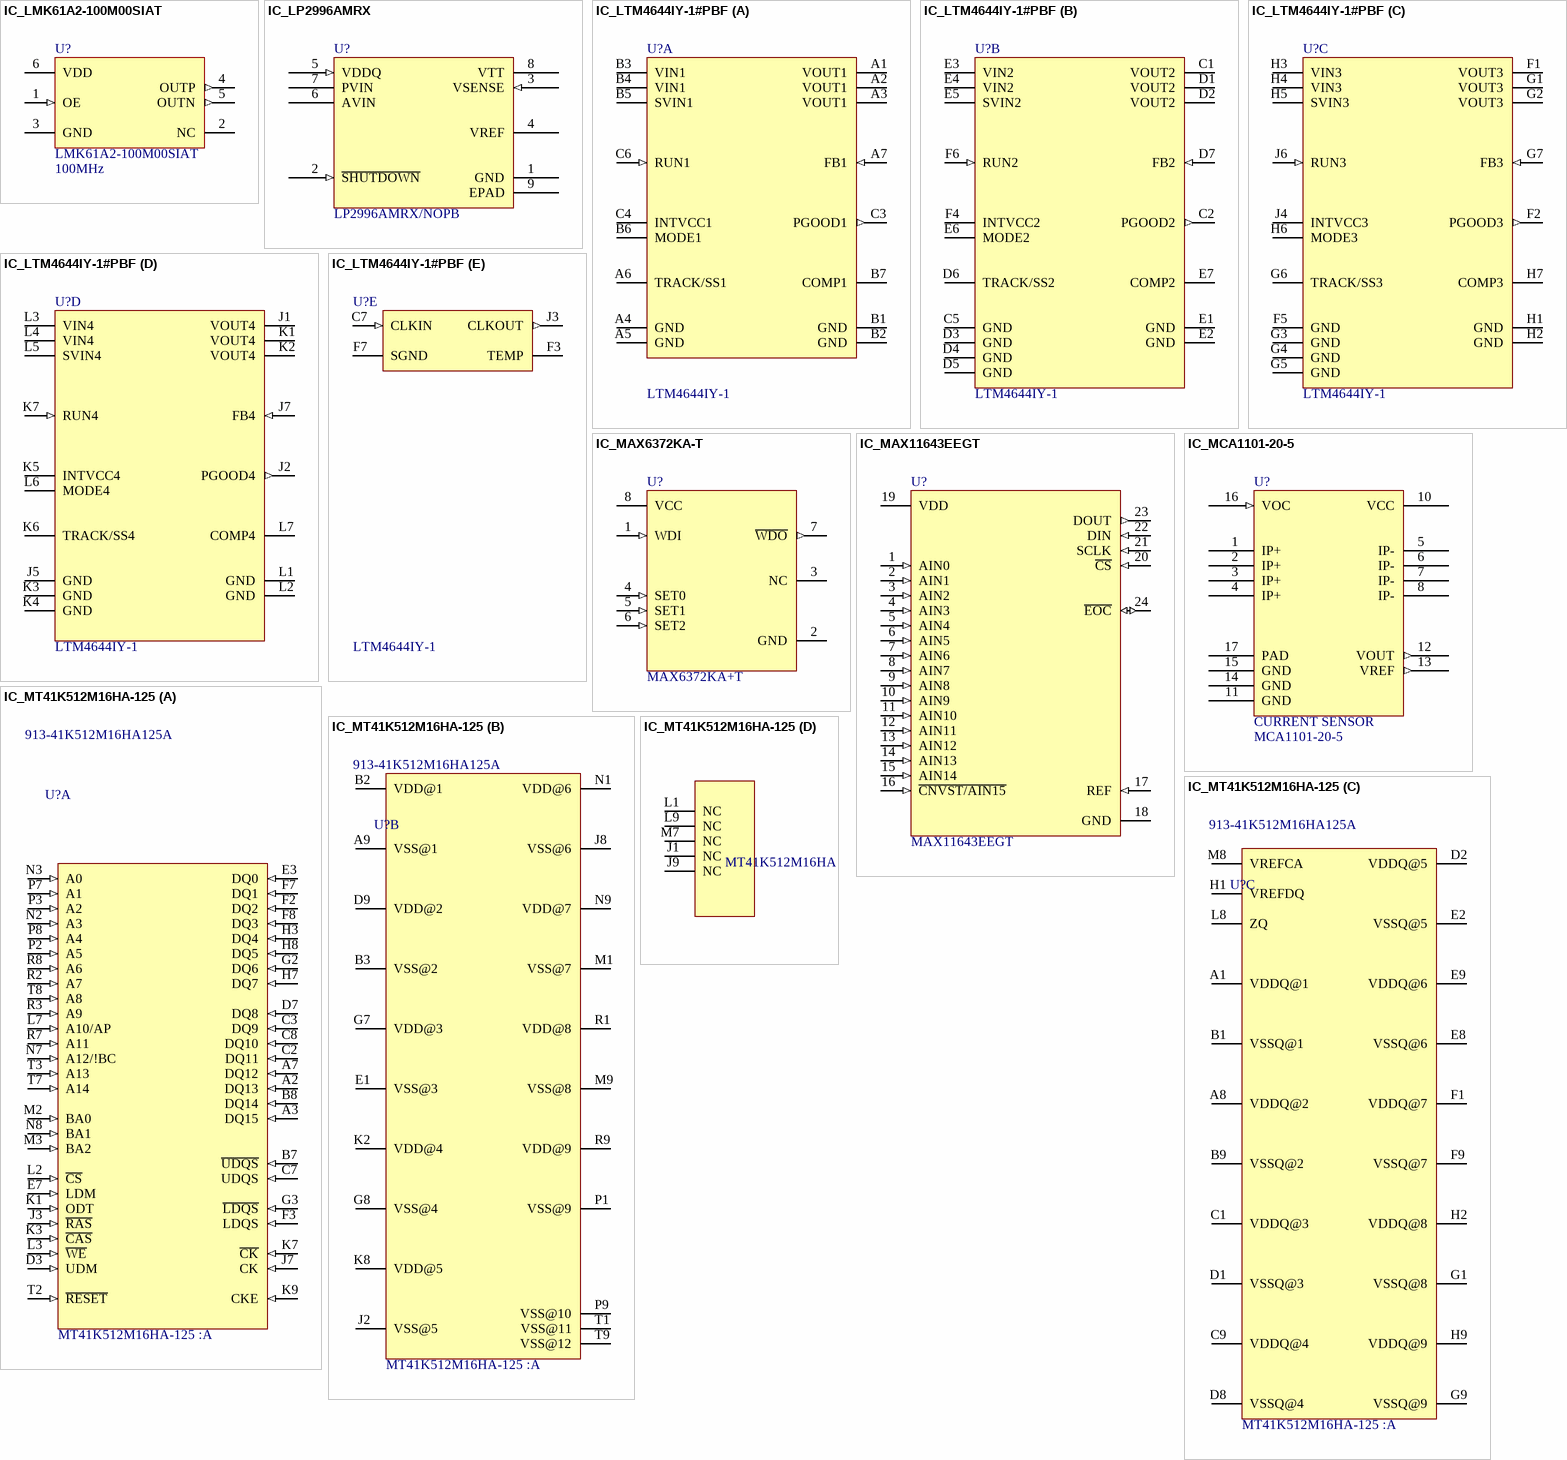
[diagram p2: symbols IC_LMK61A2-100M00SIAT to IC_MT41K512M16HA-125]

## IC_LMK61A2-100M00SIAT
designator U?, comment LMK61A2-100M00SIAT  Frequency: 100MHz
Clock Oscillator IC 100MHz 6-QFM (7x5); Mfr: Texas Instruments; Supply Voltage: 3.135V to 3.465V; Supply Current: 152mA; Output Type: LVDS; Stability: 50ppm; PSRR: 70dB; Rise / fall time: 150ps; Differential Output Impedance: 125 Ohm; Operating Temperature: -40C to 85C; ComponentLink1Description: Datasheet; ComponentLink1URL: https://www.ti.com/lit/ds/symlink/lmk61e2-100m.pdf; ComponentLink2Description: Mfr Page; ComponentLink2URL: https://www.ti.com/product/LMK61A2-100M; ComponentLink3Description: Digikey; ComponentLink3URL: https://www.digikey.ca/en/products/detail/texas-instruments/LMK61A2-100M00SIAT/5877827; ComponentLink4Description: Mouser; ComponentLink4URL: https://www.mouser.com/ProductDetail/Texas-Instruments/LMK61A2-100M00SIAT; ComponentLink5Description: Octopart; ComponentLink5URL: https://octopart.com/search?q=LMK61A2-100M00SIAT; Supplier 1: Digi-Key; Supplier 2: Mouser; Supplier Part Number 1: 296-43859-1-ND; Supplier Part Number 2: 595-MK61A2100M00SIAT
footprint LMK61A2-100M00SIAT (QFM-6 (7x5))
pins: 1 OE (in), 2 NC, 3 GND (power), 4 OUTP (out), 5 OUTN (out), 6 VDD (power)

## IC_LP2996AMRX
designator U?, comment LP2996AMRX/NOPB
IC REGULATOR DDR TERM 8SOPWRPAD; Mfr: Texas Instruments; Supply Voltage: 2.2V - 5.5V; Continuous Current: 1.5A; Applications: DDR3 Terminator; Operating Temperature: 0C - 125C; ComponentLink1Description: Datasheet; ComponentLink1URL: https://www.ti.com/lit/ds/symlink/lp2996a.pdf; ComponentLink2Description: Mfr Page; ComponentLink2URL: https://www.ti.com/store/ti/en/p/product/?p=LP2996AMRX/NOPB; ComponentLink3Description: Octopart; ComponentLink3URL: https://octopart.com/search?q=LP2996AMRX%2FNOPB; ComponentLink4Description: Digikey; ComponentLink4URL: https://www.digikey.ca/en/products/detail/LP2996AMRX-NOPB/296-40344-2-ND; ComponentLink5Description: Mouser; ComponentLink5URL: https://www.mouser.com/ProductDetail/Texas-Instruments/LP2996AMRX-NOPB; Supplier 1: Digi-Key; Supplier 2: Mouser; Supplier Part Number 2: 595-LP2996AMRX/NOPB; Supplier Part Number 1: 296-40344-1-ND
footprint LP2996AMRX
pins: 1 GND (power), 2 ~{SHUTDOWN} (in), 3 VSENSE (in), 4 VREF (power), 5 VDDQ (in), 6 AVIN (power), 7 PVIN (power), 8 VTT (power), 9 EPAD (power)

## IC_LTM4644IY-1#PBF
designator U?, comment LTM4644IY-1
Non-Isolated PoL Module DC DC Converter 4 Output 0.6 ~ 5.5V 0.6 ~ 5.5V 0.6 ~ 5.5V 0.6 ~ 5.5V 4A, 4A, 4A, 4A 4V - 14V Input; Number of outputs: 4; Output Voltage (min): 0.6V; Output Current (max): 4V / channel; Power Dissipation: 5.5W; Oscillator Frequency: 1MHz; Output Ripple Voltage: 5mV; Input Voltage (min): 4V; Input Voltage (max): 14V; Output Voltage (max): 5.5V; Operating Temperature: -40C to 125C; Package: 77-BGA (15x9); Feedback Voltage: 0.6V; Supplier 1: Mouser; Supplier 2: Digi-Key; Supplier Part Number 2: 505-LTM4644IY-1#PBF-ND; Supplier Part Number 1: 584-LTM4644IY#PBF; ComponentLink1Description: Datasheet; ComponentLink1URL: https://www.analog.com/media/en/technical-documentation/data-sheets/LTM4644-4644-1.pdf; ComponentLink2Description: Digikey; ComponentLink2URL: https://www.digikey.com/en/products/detail/analog-devices-inc/LTM4644IY-1-PBF/6697151; ComponentLink3Description: Mouser; ComponentLink3URL: https://www.mouser.ca/ProductDetail/Analog-Devices/LTM4644IY-1PBF; ComponentLink4Description: Octoparts; ComponentLink4URL: https://octopart.com/ltm4644iy-1%23pbf-analog+devices+%2F+linear+technology-78405096; ComponentLink5Description: Analog Devices; ComponentLink5URL: https://www.analog.com/en/products/ltm4644.html
footprint LTM4644 (77-BGA (15 x 9))
part A pins: A1 VOUT1 (power), A2 VOUT1 (power), A3 VOUT1 (power), A4 GND (power), A5 GND (power), A6 TRACK/SS1, A7 FB1 (in), B1 GND (power), B2 GND (power), B3 VIN1 (power), B4 VIN1 (power), B5 SVIN1 (power), B6 MODE1, B7 COMP1, C3 PGOOD1 (out), C4 INTVCC1 (power), C6 RUN1 (in)
part B pins: C1 VOUT2 (power), C2 PGOOD2 (out), C5 GND (power), D1 VOUT2 (power), D2 VOUT2 (power), D3 GND (power), D4 GND (power), D5 GND (power), D6 TRACK/SS2, D7 FB2 (in), E1 GND (power), E2 GND (power), E3 VIN2 (power), E4 VIN2 (power), E5 SVIN2 (power), E6 MODE2, E7 COMP2, F4 INTVCC2 (power), F6 RUN2 (in)
part C pins: F1 VOUT3 (power), F2 PGOOD3 (out), F5 GND (power), G1 VOUT3 (power), G2 VOUT3 (power), G3 GND (power), G4 GND (power), G5 GND (power), G6 TRACK/SS3, G7 FB3 (in), H1 GND (power), H2 GND (power), H3 VIN3 (power), H4 VIN3 (power), H5 SVIN3 (power), H6 MODE3, H7 COMP3, J4 INTVCC3 (power), J6 RUN3 (in)
part D pins: J1 VOUT4 (power), J2 PGOOD4 (out), J5 GND (power), J7 FB4 (in), K1 VOUT4 (power), K2 VOUT4 (power), K3 GND (power), K4 GND (power), K5 INTVCC4 (power), K6 TRACK/SS4, K7 RUN4 (in), L1 GND (power), L2 GND (power), L3 VIN4 (power), L4 VIN4 (power), L5 SVIN4 (power), L6 MODE4, L7 COMP4
part E pins: C7 CLKIN (in), F3 TEMP, F7 SGND (power), J3 CLKOUT (out)

## IC_MAX6372KA-T
designator U?, comment MAX6372KA+T
Watchdog Push-Pull, Totem Pole 1 Channel SOT-23-8; Mfr: Maxim Integrated; Timeout: Adjustable 1ms - 10s; Temperature: -40C - 125C; Supplier 1: Mouser; ComponentLink1Description: Digikey; ComponentLink1URL: https://www.digikey.ca/en/products/detail/analog-devices-inc-maxim-integrated/MAX6372KA-T/1518602; ComponentLink2Description: Datasheet; ComponentLink2URL: https://datasheets.maximintegrated.com/en/ds/MAX6369-MAX6374.pdf; Supplier Part Number 1: 700-MAX6372KAT
footprint SOT23-8
pins: 1 WDI (in), 2 GND (power), 3 NC, 4 SET0 (in), 5 SET1 (in), 6 SET2 (in), 7 ~{WDO} (out), 8 VCC (power)

## IC_MAX11643EEGT
designator U?, comment MAX11643EEGT
8 Bit Analog to Digital Converter 16 Input 1 SAR 24-QSOP; Mfr: Maxim Integrated; Number of Bits: 8; Sampling rate: 300k; Number of inputs: 16; Input Type: Single Ended; Internal Reference: 2.5V; Internal Clock: 4.4MHz; Voltage Supply: 2.7V - 3.6V; Operating Temperature: -40C to 85C; Supplier 1: Mouser; Supplier Part Number 1: 700-MAX11643EEG+; ComponentLink1Description: Digikey; ComponentLink1URL: https://www.digikey.ca/en/products/detail/analog-devices-inc-maxim-integrated/MAX11643EEG/2793247; ComponentLink2Description: Datasheet; ComponentLink2URL: https://datasheets.maximintegrated.com/en/ds/MAX11638-MAX11643.pdf
footprint MAX11643EEG+ (SSOP-24)
pins: 1 AIN0 (in), 2 AIN1 (in), 3 AIN2 (in), 4 AIN3 (in), 5 AIN4 (in), 6 AIN5 (in), 7 AIN6 (in), 8 AIN7 (in), 9 AIN8 (in), 10 AIN9 (in), 11 AIN10 (in), 12 AIN11 (in), 13 AIN12 (in), 14 AIN13 (in), 15 AIN14 (in), 16 ~{CNVST/AIN15} (in), 17 REF (in), 18 GND (power), 19 VDD (power), 20 ~{CS} (in), 21 SCLK (in), 22 DIN (in), 23 DOUT (out), 24 ~{EOC} (io)

## IC_MCA1101-20-5
designator U?, comment MCA1101-20-5  Type: CURRENT SENSOR
Board Mount Current Sensors 20A, 5V, Fix gain, 1.5MHz BW, Galvanic isolation. UL/IEC/EN60950-1 certified. SOIC-16; Manufacturer: ACEINNA; Output Voltage: 2.175V; Current Rating: 20A; Supply Voltage: 5V; Operating Temperature: -40C - 105C; Package / Case: SOIC-16; ComponentLink1Description: Mouser; ComponentLink1URL: https://www.mouser.ca/ProductDetail/ACEINNA/MCA1101-20-5
footprint MCA1101-20-5 (SOIC-16 Current Sensor)
pins: 1 IP+ (power), 2 IP+ (power), 3 IP+ (power), 4 IP+ (power), 5 IP- (power), 6 IP- (power), 7 IP- (power), 8 IP- (power), 10 VCC (power), 11 GND (power), 12 VOUT (out), 13 VREF (out), 14 GND (power), 15 GND (power), 16 VOC (in), 17 PAD (power)

## IC_MT41K512M16HA-125
designator U?, comment MT41K512M16HA-125 :A  Supplier Part Number 1: 913-41K512M16HA125A
DRAM 8G 1.35V 512Mx16 800 MHz DDR3 0C-90C; Mfr: Alliance Memory; Data Bus Width: 16 bits; Memory Size: 8Gb; Maximum Clock Frequency: 800MHz; Supply Voltage (Max): 1.45V; Supply Voltage (Min): 1.283V; Supply Current (Max): 88mA; Package / Case: FBGA-96; Type: SDRAM - DDR3L; Memory Organization: 512M x 16; Operating Temperature: 0C - 95C; ComponentLink1Description: Digikey; ComponentLink1URL: https://www.digikey.ca/en/products/detail/alliance-memory-inc/MT41K512M16HA-125:A/10821776; ComponentLink2Description: Datasheet; ComponentLink2URL: https://media.digikey.com/pdf/Data%20Sheets/Micron%20Technology%20Inc%20PDFs/MT41K_2G4,1G8,512M16_8Gb_DDR3L.pdf; Digikey #: 1450-MT41K512M16HA-125:A-ND; Supplier 1: Mouser
footprint FBGA-96
part A pins: A2 DQ13 (in), A3 DQ15 (in), A7 DQ12 (in), B7 ~{UDQS} (in), B8 DQ14 (in), C2 DQ11 (in), C3 DQ9 (in), C7 UDQS (in), C8 DQ10 (in), D3 UDM (in), D7 DQ8 (in), E3 DQ0 (in), E7 LDM (in), F2 DQ2 (in), F3 LDQS (in), F7 DQ1 (in), F8 DQ3 (in), G2 DQ6 (in), G3 ~{LDQS} (in), H3 DQ4 (in), H7 DQ7 (in), H8 DQ5 (in), J3 ~{RAS} (in), J7 CK (in), K1 ODT (in), K3 ~{CAS} (in), K7 ~{CK} (in), K9 CKE (in), L2 ~{CS} (in), L3 ~{WE} (in), L7 A10/AP (in), M2 BA0 (in), M3 BA2 (in), N2 A3 (in), N3 A0 (in), N7 A12/!BC (in), N8 BA1 (in), P2 A5 (in), P3 A2 (in), P7 A1 (in), P8 A4 (in), R2 A7 (in), R3 A9 (in), R7 A11 (in), R8 A6 (in), T2 ~{RESET} (in), T3 A13 (in), T7 A14 (in), T8 A8 (in)
part B pins: A9 VSS@1 (power), B2 VDD@1 (power), B3 VSS@2 (power), D9 VDD@2 (power), E1 VSS@3 (power), G7 VDD@3 (power), G8 VSS@4 (power), J2 VSS@5 (power), J8 VSS@6 (power), K2 VDD@4 (power), K8 VDD@5 (power), M1 VSS@7 (power), M9 VSS@8 (power), N1 VDD@6 (power), N9 VDD@7 (power), P1 VSS@9 (power), P9 VSS@10 (power), R1 VDD@8 (power), R9 VDD@9 (power), T1 VSS@11 (power), T9 VSS@12 (power)
part C pins: A1 VDDQ@1 (power), A8 VDDQ@2 (power), B1 VSSQ@1 (power), B9 VSSQ@2 (power), C1 VDDQ@3 (power), C9 VDDQ@4 (power), D1 VSSQ@3 (power), D2 VDDQ@5 (power), D8 VSSQ@4 (power), E2 VSSQ@5 (power), E8 VSSQ@6 (power), E9 VDDQ@6 (power), F1 VDDQ@7 (power), F9 VSSQ@7 (power), G1 VSSQ@8 (power), G9 VSSQ@9 (power), H1 VREFDQ (power), H2 VDDQ@8 (power), H9 VDDQ@9 (power), L8 ZQ, M8 VREFCA (power)
part D pins: J1 NC, J9 NC, L1 NC, L9 NC, M7 NC

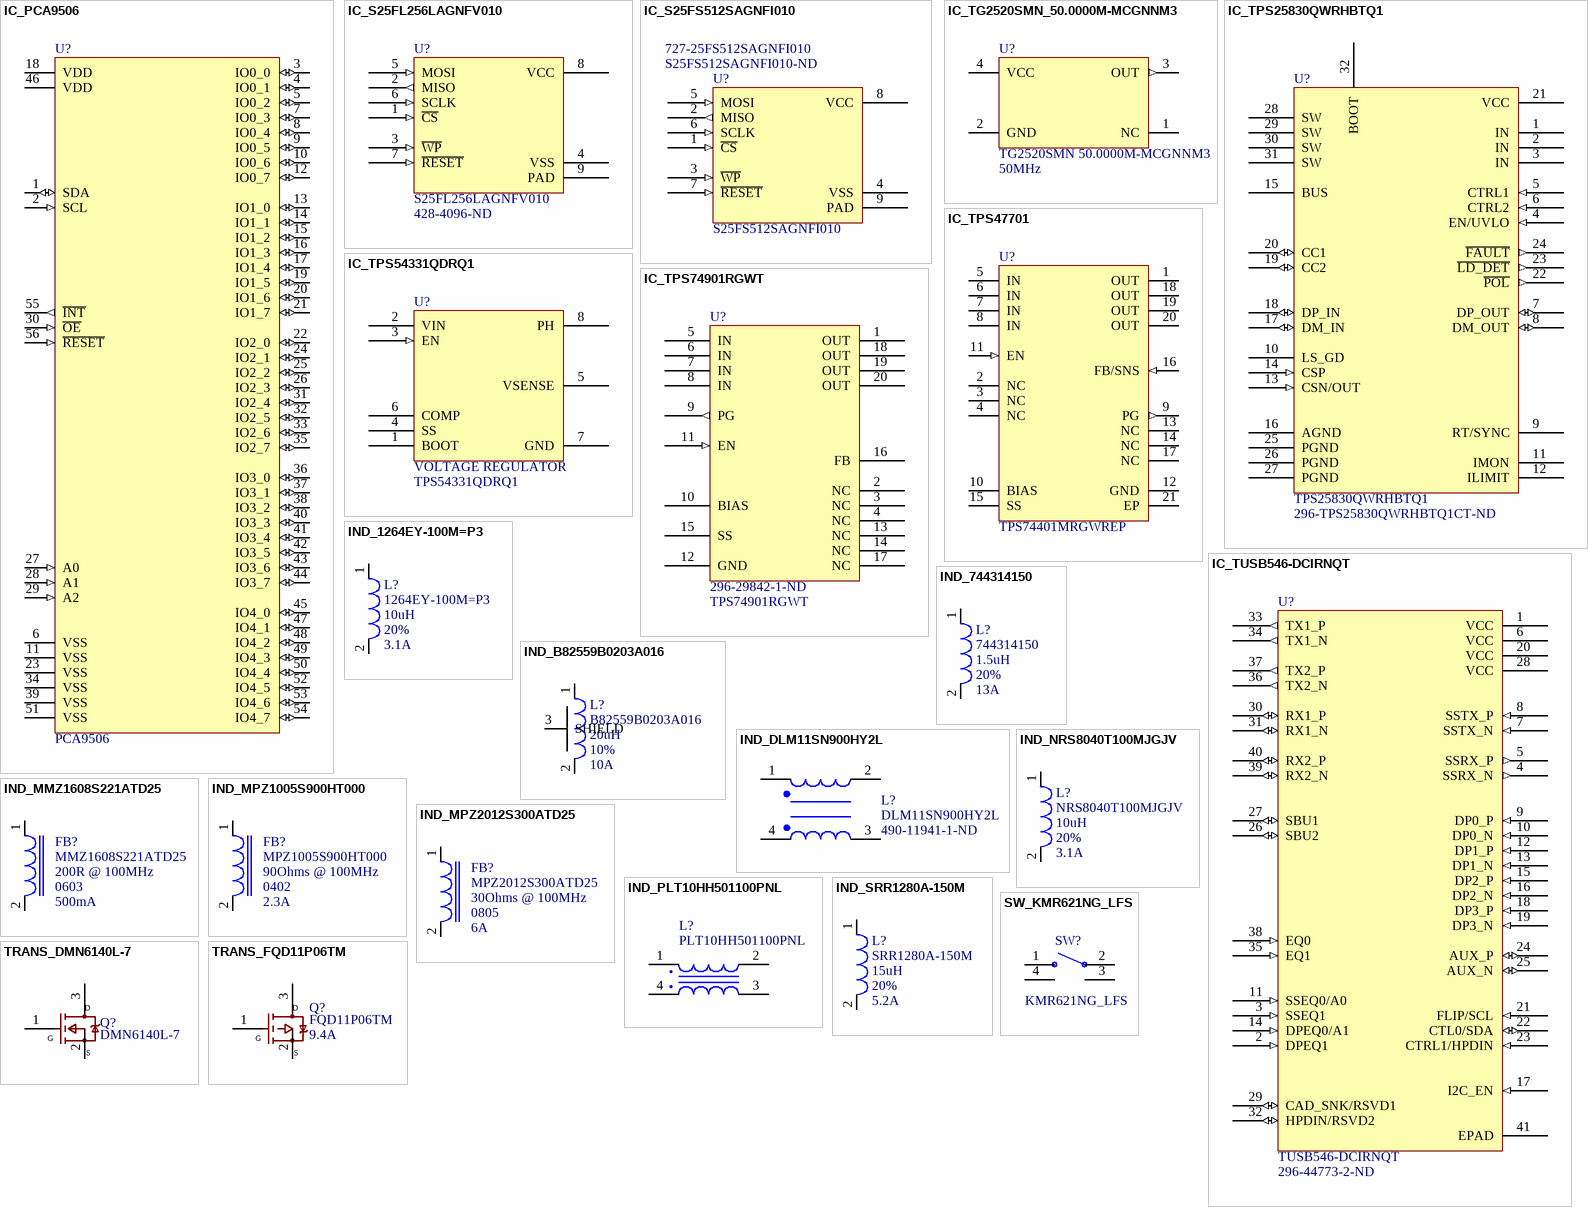
[diagram p3: symbols IC_PCA9506 to TRANS_FQD11P06TM]

## IC_PCA9506
designator U?, comment PCA9506
I/O Expander 40 pins I2C TSSOP-56; Mfr: NXP; Number of I/O: 40; Output Type: Push-Pull; Current Source: 10mA; Current Sink: 25mA; Clock: 400kHz; Voltage Supply: 2.3V - 5.5V; Operating Temperature: -40C to 85C; Supplier 1: Digi-Key; Supplier Part Number 1: 568-11940-1-ND; ComponentLink1Description: Digikey; ComponentLink1URL: https://www.digikey.ca/en/products/detail/nxp-usa-inc/PCA9506DGG-518/1157017; ComponentLink2Description: Datasheet; ComponentLink2URL: https://www.nxp.com/docs/en/data-sheet/PCA9505_9506.pdf
footprint PCA9506 (TSSOP-56)
pins: 1 SDA (io), 2 SCL (in), 3 IO0_0 (io), 4 IO0_1 (io), 5 IO0_2 (io), 6 VSS (power), 7 IO0_3 (io), 8 IO0_4 (io), 9 IO0_5 (io), 10 IO0_6 (io), 11 VSS (power), 12 IO0_7 (io), 13 IO1_0 (io), 14 IO1_1 (io), 15 IO1_2 (io), 16 IO1_3 (io), 17 IO1_4 (io), 18 VDD (power), 19 IO1_5 (io), 20 IO1_6 (io), 21 IO1_7 (io), 22 IO2_0 (io), 23 VSS (power), 24 IO2_1 (io), 25 IO2_2 (io), 26 IO2_3 (io), 27 A0 (in), 28 A1 (in), 29 A2 (in), 30 ~{OE} (in), 31 IO2_4 (io), 32 IO2_5 (io), 33 IO2_6 (io), 34 VSS (power), 35 IO2_7 (io), 36 IO3_0 (io), 37 IO3_1 (io), 38 IO3_2 (io), 39 VSS (power), 40 IO3_3 (io), 41 IO3_4 (io), 42 IO3_5 (io), 43 IO3_6 (io), 44 IO3_7 (io), 45 IO4_0 (io), 46 VDD (power), 47 IO4_1 (io), 48 IO4_2 (io), 49 IO4_3 (io), 50 IO4_4 (io), 51 VSS (power), 52 IO4_5 (io), 53 IO4_6 (io), 54 IO4_7 (io), 55 ~{INT} (out), 56 ~{RESET} (in)

## IC_S25FL256LAGNFV010
designator U?, comment S25FL256LAGNFV010  Supplier Part Number 1: 428-4096-ND
FLASH - NOR Memory IC 256Mb (32M x 8) SPI - Quad I/O, QPI 133 MHz 8-WSON (6x8); Mfr: Cypress; Memory Size: 256Mbits; Clock Frequency: 133MHz; Supply Voltage: 2.7V - 3.6V; Supplier 1: Digi-Key; Package: WSON-8 (8x6); Operating Temperature: -40C - 105C
footprint s25FL256LAGNFV010
pins: 1 ~{CS} (in), 2 MISO (out), 3 ~{WP} (in), 4 VSS (power), 5 MOSI (in), 6 SCLK (in), 7 ~{RESET} (in), 8 VCC (power), 9 PAD (power)

## IC_S25FS512SAGNFI010
designator U?, comment S25FS512SAGNFI010  Supplier Part Number 1: S25FS512SAGNFI010-ND  Supplier Part Number 2: 727-25FS512SAGNFI010
FLASH - NOR Memory IC 512Mb (64M x 8) SPI - Quad I/O, QPI 133 MHz 8-WSON (6x8); Mfr: Cypress; Memory Size: 512Mbits; Clock Frequency: 133MHz; Supply Voltage: 2.7V - 3.6V; Package: WSON-8 (8x6); Operating Temperature: -40C - 105C; ComponentLink1Description: Digikey; ComponentLink1URL: https://www.digikey.ca/en/products/detail/cypress-semiconductor-corp/S25FS512SAGNFI010/6596268; ComponentLink2Description: Datasheet; ComponentLink2URL: https://www.infineon.com/dgdl/Infineon-S25FS512S_512_Mb_1.8_V_Serial_Peripheral_Interface_with_Multi-I_O_Non-Volatile_Flash-DataSheet-v14_00-EN.pdf?fileId=8ac78c8c7d0d8da4017d0ed681a356fe&utm_source=cypress&utm_medium=referral&utm_campaign=202110_globe_en_all_integration-files; Supplier 1: Digi-Key; Supplier 2: Mouser
footprint s25FL256LAGNFV010
pins: 1 ~{CS} (in), 2 MISO (out), 3 ~{WP} (in), 4 VSS (power), 5 MOSI (in), 6 SCLK (in), 7 ~{RESET} (in), 8 VCC (power), 9 PAD (power)

## IC_TG2520SMN_50.0000M-MCGNNM3
designator U?, comment TG2520SMN 50.0000M-MCGNNM3  Frequency: 50MHz
50 MHz TCXO Clipped Sine Wave Oscillator 2.8V ~ 3.3V - 4-SMD, No Lead; Mfr: EPSON; Supply Voltage: 2.8V - 3.3V; Frequency Stability: 500ppb; Supply Current: 2mA; Type: TCXO; Operating Temperature: -40C to 85C; ComponentLink1Description: Digikey; ComponentLink1URL: https://www.digikey.ca/en/products/detail/epson/TG2520SMN-50-0000M-MCGNNM3/13151939; ComponentLink2Description: Datasheet; ComponentLink2URL: https://support.epson.biz/td/api/doc_check.php?dl=brief_TG2520SMN&lang=en; ComponentLink3Description: Manufacturer; ComponentLink3URL: https://www5.epsondevice.com/en/products/tcxo/tg2520smn.html; Supplier 1: Digi-Key; Supplier 2: Mouser; Supplier Part Number 2: 732-TG252S5MCGNNM3; Supplier Part Number 1: 114-TG2520SMN50.0000M-MCGNNM3CT-ND
footprint TG2520SMN (4-SMD 2.5x2.0)
pins: 1 NC, 2 GND (power), 3 OUT (out), 4 VCC (power)

## IC_TPS25830QWRHBTQ1
designator U?, comment TPS25830QWRHBTQ1  Supplier Part Number 1: 296-TPS25830QWRHBTQ1CT-ND
Automotive, USB Protection PMIC 32-VQFN (5x5); Mfr: Texas Instruments; Rating: Automotive AEC-Q100; Supply Current: 700uA; Supply Voltage: 4.5V - 36V; Operating Temperature: -40C - 125C; Supplier 1: Digi-Key
footprint TPS25830QWRHBTQ1
pins: 1 IN (power), 2 IN (power), 3 IN (power), 4 EN/UVLO (in), 5 CTRL1 (in), 6 CTRL2 (in), 7 DP_OUT (io), 8 DM_OUT (io), 9 RT/SYNC, 10 LS_GD, 11 IMON, 12 ILIMIT, 13 CSN/OUT (in), 14 CSP (in), 15 BUS (power), 16 AGND (power), 17 DM_IN (io), 18 DP_IN (io), 19 CC2 (io), 20 CC1 (io), 21 VCC (power), 22 ~{POL} (out), 23 ~{LD_DET} (out), 24 ~{FAULT} (out), 25 PGND (power), 26 PGND (power), 27 PGND (power), 28 SW (power), 29 SW (power), 30 SW (power), 31 SW (power), 32 BOOT

## IC_TPS47701
designator U?, comment TPS74401MRGWREP
IC REG LINEAR POS ADJ 3A 20VQFN; Mfr: Texas Instruments; Input Voltage (min): 240mV; Input Voltage (max): 5.5V; Output Voltage (min): 0.8V; Output Voltage (max): 3.6V; PSRR: 73dB - 50dB; Current: 3A; Operating Temperature: -55C - 125C; Package / Case: 20-VQFN; Digikey Part Number: 296-27227-1-ND; Voltage Dropout (max): 240mV; ComponentLink1Description: Digikey; ComponentLink1URL: https://www.digikey.ca/en/products/detail/texas-instruments/TPS74401MRGWREP/2261531; ComponentLink2Description: Datasheet; ComponentLink2URL: https://www.ti.com/lit/ds/symlink/tps74401-ep.pdf
footprint TPS74401 (LDO Regulator)
pins: 1 OUT (power), 2 NC, 3 NC, 4 NC, 5 IN (power), 6 IN (power), 7 IN (power), 8 IN (power), 9 PG (out), 10 BIAS (power), 11 EN (in), 12 GND (power), 13 NC, 14 NC, 15 SS, 16 FB/SNS (in), 17 NC, 18 OUT (power), 19 OUT (power), 20 OUT (power), 21 EP (power)

## IC_TPS54331QDRQ1
designator U?, comment TPS54331QDRQ1
IC REG BUCK ADJUSTABLE 3A 8SOIC; Mfr: Texas Instruments; Input Voltage (min): 3.5V; Input Voltage (max): 28V; Output Voltage (min): 0.8V; Output Voltage (max): 25V; Switching Frequency: 570kHz; Topology: Buck; Current: 3A; Operating Temperature: -40C - 125C; Package / Case: 8-SOIC; Digikey Part Number: TPS54331QDRQ1; ComponentLink1Description: Mouser; ComponentLink1URL: https://www.mouser.ca/ProductDetail/Texas-Instruments/TPS54331QDRQ1; ComponentLink2Description: Digikey; ComponentLink2URL: https://www.digikey.ca/en/products/detail/texas-instruments/TPS54331QDRQ1/2512406; Supplier 1: Mouser; Supplier Part Number 1: 595-TPS54331QDRQ1
footprint TPS54331QDRQ1
pins: 1 BOOT, 2 VIN (power), 3 EN (in), 4 SS, 5 VSENSE, 6 COMP, 7 GND, 8 PH
text: VOLTAGE REGULATOR

## IC_TPS74901RGWT
designator U?, comment TPS74901RGWT  Supplier Part Number 1: 296-29842-1-ND
IC REG LINEAR POS ADJ 3A 20VQFN; Mfr: Texas Instruments; Max Input Voltage: 5.5V; Min Output Voltage: 0.8V; Max Output Voltage: 3.6V; Max Current: 3A; Operating Temperature: -40C - 125C; Supplier 1: Digi-Key
footprint TPS74901RGWT
pins: 1 OUT (power), 2 NC, 3 NC, 4 NC, 5 IN (power), 6 IN (power), 7 IN (power), 8 IN (power), 9 PG (out), 10 BIAS, 11 EN (in), 12 GND (power), 13 NC, 14 NC, 15 SS, 16 FB, 17 NC, 18 OUT (power), 19 OUT (power), 20 OUT (power)

## IC_TUSB546-DCIRNQT
designator U?, comment TUSB546-DCIRNQT  Supplier Part Number 1: 296-44773-2-ND
Buffer, ReDriver 2 Channel 8.1Gbps 40-WQFN (4x6); Mfr: Texas Instruments; Supply Voltage: 3.3V - 3.6V; Operating Temperature: 0C - 70C; Supplier 1: Digi-Key
footprint TUSB546-DCIRNQT
pins: 1 VCC (power), 2 DPEQ1 (in), 3 SSEQ1 (in), 4 SSRX_N (out), 5 SSRX_P (out), 6 VCC (power), 7 SSTX_N (in), 8 SSTX_P (in), 9 DP0_P (in), 10 DP0_N (in), 11 SSEQ0/A0 (in), 12 DP1_P (in), 13 DP1_N (in), 14 DPEQ0/A1 (in), 15 DP2_P (in), 16 DP2_N (in), 17 I2C_EN (in), 18 DP3_P (in), 19 DP3_N (in), 20 VCC (power), 21 FLIP/SCL (in), 22 CTL0/SDA (io), 23 CTRL1/HPDIN (in), 24 AUX_P (io), 25 AUX_N (io), 26 SBU2 (io), 27 SBU1 (io), 28 VCC (power), 29 CAD_SNK/RSVD1 (io), 30 RX1_P (io), 31 RX1_N (io), 32 HPDIN/RSVD2 (io), 33 TX1_P (out), 34 TX1_N (out), 35 EQ1 (in), 36 TX2_N (out), 37 TX2_P (out), 38 EQ0 (in), 39 RX2_N (io), 40 RX2_P (io), 41 EPAD (power)

## IND_1264EY-100M=P3
designator L?, comment 1264EY-100M=P3  Inductance: 10uH  Tolerance: 20%  Current Rating: 3.1A
Generic Inductor; Material: Ferrite; Resistance: 45mOhms; Operating Temperature: *; Package / Case: *
footprint 1264EY-100M=P3
pins: 1, 2

## IND_744314150
designator L?, comment 744314150  Inductance: 1.5uH  Tolerance: 20%  Current Rating: 13A
FIXED IND 1.5UH 13A 4.3 MOHM SMD; Mfr: Wurth; Resistance: 4.3mR; Operating Temperature: -40C - 150C; Created By: Pascal-Emmanuel Lachance; ComponentLink1Description: Digikey; ComponentLink1URL: https://www.digikey.ca/en/products/detail/w%C3%BCrth-elektronik/744314150/1638563; ComponentLink2Description: Mouser; ComponentLink2URL: https://www.mouser.ca/ProductDetail/Wurth-Elektronik/744314150; ComponentLink3Description: Datasheet; ComponentLink3URL: https://www.we-online.com/katalog/datasheet/744314150.pdf
footprint 744314150
pins: 1, 2